# Altium schematic symbol library TRS_BI_NPN.SchLib: 1 symbol
Pins are listed as number, name and electrical type; pins without a type are passive.

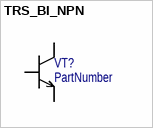
[diagram p0: symbol TRS_BI_NPN]

## TRS_BI_NPN
designator VT?  (value not drawn)
PartNumber: PartNumber
pins: B, C, E